# Altium footprint library lan7800.PcbLib: 3 footprints
Each footprint in its own frame and in the unit in brackets; x right, y up, seen from the top. Pads: shape width x height; smd on the part's side, far side on the other; paste and mask are expansions set on the pad; w line width, h text height; cw(c..) or ccw(c..) is an arc to the next point about the centre after c.
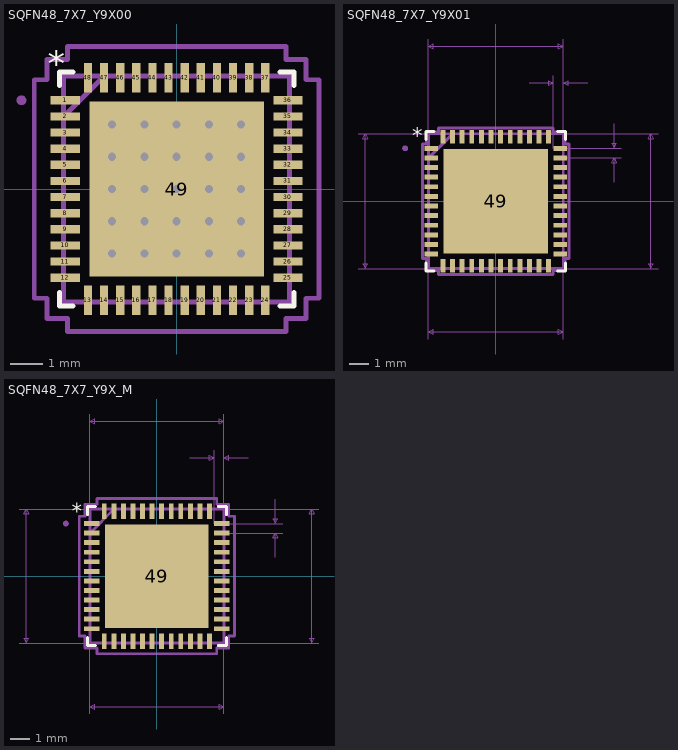
[diagram p0: the footprints below, top view; thin cyan lines are the x and y axes]

## SQFN48_7X7_Y9X00 [mm]
pads (49):
  rect 0.908x0.255 smd: 1(-3.451,2.75) 2(-3.451,2.25) 3(-3.451,1.75) 4(-3.451,1.25) 5(-3.451,0.75) 6(-3.451,0.25) 7(-3.451,-0.25) 8(-3.451,-0.75) 9(-3.451,-1.25) 10(-3.451,-1.75) 11(-3.451,-2.25) 12(-3.451,-2.75) 25(3.451,-2.75) 26(3.451,-2.25) 27(3.451,-1.75) 28(3.451,-1.25) 29(3.451,-0.75) 30(3.451,-0.25) 31(3.451,0.25) 32(3.451,0.75) 33(3.451,1.25) 34(3.451,1.75) 35(3.451,2.25) 36(3.451,2.75)
  rect 0.255x0.908 smd: 13(-2.75,-3.451) 14(-2.25,-3.451) 15(-1.75,-3.451) 16(-1.25,-3.451) 17(-0.75,-3.451) 18(-0.25,-3.451) 19(0.25,-3.451) 20(0.75,-3.451) 21(1.25,-3.451) 22(1.75,-3.451) 23(2.25,-3.451) 24(2.75,-3.451) 37(2.75,3.451) 38(2.25,3.451) 39(1.75,3.451) 40(1.25,3.451) 41(0.75,3.451) 42(0.25,3.451) 43(-0.25,3.451) 44(-0.75,3.451) 45(-1.25,3.451) 46(-1.75,3.451) 47(-2.25,3.451) 48(-2.75,3.451)
  rect 5.41x5.41 smd: 49(0,0)
via -2,-2 diameter 0.33 hole 0.25
via -1,-2 diameter 0.33 hole 0.25
via 0,-2 diameter 0.33 hole 0.25
via 1,-2 diameter 0.33 hole 0.25
via 2,-2 diameter 0.33 hole 0.25
via -2,-1 diameter 0.33 hole 0.25
via -1,-1 diameter 0.33 hole 0.25
via 0,-1 diameter 0.33 hole 0.25
via 1,-1 diameter 0.33 hole 0.25
via 2,-1 diameter 0.33 hole 0.25
via -2,0 diameter 0.33 hole 0.25
via -1,0 diameter 0.33 hole 0.25
via 0,0 diameter 0.33 hole 0.25
via 1,0 diameter 0.33 hole 0.25
via 2,0 diameter 0.33 hole 0.25
via -2,1 diameter 0.33 hole 0.25
via -1,1 diameter 0.33 hole 0.25
via 0,1 diameter 0.33 hole 0.25
via 1,1 diameter 0.33 hole 0.25
via 2,1 diameter 0.33 hole 0.25
via 2,2 diameter 0.33 hole 0.25
via 1,2 diameter 0.33 hole 0.25
via 0,2 diameter 0.33 hole 0.25
via -1,2 diameter 0.33 hole 0.25
via -2,2 diameter 0.33 hole 0.25
Top Overlay:
  lines w0.152: -3.632,-3.21 -3.632,-3.632 -3.21,-3.632 ; -3.632,3.21 -3.632,3.632 -3.21,3.632 ; 3.21,-3.632 3.632,-3.632 3.632,-3.21 ; 3.21,3.632 3.632,3.632 3.632,3.21
  text "*" at -4,3.5 h0.79
Outline:
  lines w0.025: -3.505,2.235 -2.235,3.505 ; -3.505,-3.505 3.505,-3.505 3.505,3.505 -3.505,3.505 -3.505,-3.505 ; -3.505,-2.902 -3.505,-2.598 -3.505,-2.902 ; -3.505,-2.402 -3.505,-2.098 -3.505,-2.402 ; -3.505,-1.902 -3.505,-1.598 -3.505,-1.902 ; -3.505,-1.402 -3.505,-1.098 -3.505,-1.402 ; -3.505,-0.902 -3.505,-0.598 -3.505,-0.902 ; -3.505,-0.402 -3.505,-0.098 -3.505,-0.402 ; -3.505,0.098 -3.505,0.402 -3.505,0.098 ; -3.505,0.598 -3.505,0.902 -3.505,0.598 ; -3.505,1.098 -3.505,1.402 -3.505,1.098 ; -3.505,1.598 -3.505,1.902 -3.505,1.598 ; -3.505,2.098 -3.505,2.402 -3.505,2.098 ; -3.505,2.598 -3.505,2.902 -3.505,2.598 ; -2.902,-3.505 -2.598,-3.505 -2.902,-3.505 ; -2.902,3.505 -2.598,3.505 -2.902,3.505 ; -2.402,-3.505 -2.098,-3.505 -2.402,-3.505 ; -2.402,3.505 -2.098,3.505 -2.402,3.505 ; -1.902,-3.505 -1.598,-3.505 -1.902,-3.505 ; -1.902,3.505 -1.598,3.505 -1.902,3.505 ; -1.402,-3.505 -1.098,-3.505 -1.402,-3.505 ; -1.402,3.505 -1.098,3.505 -1.402,3.505 ; -0.902,-3.505 -0.598,-3.505 -0.902,-3.505 ; -0.902,3.505 -0.598,3.505 -0.902,3.505 ; -0.402,-3.505 -0.098,-3.505 -0.402,-3.505 ; -0.402,3.505 -0.098,3.505 -0.402,3.505 ; 0.098,-3.505 0.402,-3.505 0.098,-3.505 ; 0.098,3.505 0.402,3.505 0.098,3.505 ; 0.598,-3.505 0.902,-3.505 0.598,-3.505 ; 0.598,3.505 0.902,3.505 0.598,3.505 ; 1.098,-3.505 1.402,-3.505 1.098,-3.505 ; 1.098,3.505 1.402,3.505 1.098,3.505 ; 1.598,-3.505 1.902,-3.505 1.598,-3.505 ; 1.598,3.505 1.902,3.505 1.598,3.505 ; 2.098,-3.505 2.402,-3.505 2.098,-3.505 ; 2.098,3.505 2.402,3.505 2.098,3.505 ; 2.598,-3.505 2.902,-3.505 2.598,-3.505 ; 2.598,3.505 2.902,3.505 2.598,3.505 ; 3.505,-2.902 3.505,-2.598 3.505,-2.902 ; 3.505,-2.402 3.505,-2.098 3.505,-2.402 ; 3.505,-1.902 3.505,-1.598 3.505,-1.902 ; 3.505,-1.402 3.505,-1.098 3.505,-1.402 ; 3.505,-0.902 3.505,-0.598 3.505,-0.902 ; 3.505,-0.402 3.505,-0.098 3.505,-0.402 ; 3.505,0.098 3.505,0.402 3.505,0.098 ; 3.505,0.598 3.505,0.902 3.505,0.598 ; 3.505,1.098 3.505,1.402 3.505,1.098 ; 3.505,1.598 3.505,1.902 3.505,1.598 ; 3.505,2.098 3.505,2.402 3.505,2.098 ; 3.505,2.598 3.505,2.902 3.505,2.598
  text "*" at -2.997,3 h0.79
Courtyard Bottom:
  circle w0.152: c-4.81,2.75 r0.076
  lines w0.152: -3.505,2.235 -2.235,3.505 ; -4.413,-3.385 -4.413,3.385 -4.013,3.385 -4.013,4.013 -3.385,4.013 -3.385,4.413 3.385,4.413 3.385,4.013 4.013,4.013 4.013,3.385 4.413,3.385 4.413,-3.385 4.013,-3.385 4.013,-4.013 3.385,-4.013 3.385,-4.413 -3.385,-4.413 -3.385,-4.013 -4.013,-4.013 -4.013,-3.385 -4.413,-3.385 ; -3.505,-3.505 3.505,-3.505 3.505,3.505 -3.505,3.505 -3.505,-3.505
3D body: height 0.99, standoff 0, extent -3.505,-3.505 3.505,3.505

## SQFN48_7X7_Y9X01 [mm]
pads (49):
  rect 0.708x0.255 all layers, no hole: 1(-3.351,2.75) 2(-3.351,2.25) 3(-3.351,1.75) 4(-3.351,1.25) 5(-3.351,0.75) 6(-3.351,0.25) 7(-3.351,-0.25) 8(-3.351,-0.75) 9(-3.351,-1.25) 10(-3.351,-1.75) 11(-3.351,-2.25) 12(-3.351,-2.75) 25(3.351,-2.75) 26(3.351,-2.25) 27(3.351,-1.75) 28(3.351,-1.25) 29(3.351,-0.75) 30(3.351,-0.25) 31(3.351,0.25) 32(3.351,0.75) 33(3.351,1.25) 34(3.351,1.75) 35(3.351,2.25) 36(3.351,2.75)
  rect 0.255x0.708 all layers, no hole: 13(-2.75,-3.351) 14(-2.25,-3.351) 15(-1.75,-3.351) 16(-1.25,-3.351) 17(-0.75,-3.351) 18(-0.25,-3.351) 19(0.25,-3.351) 20(0.75,-3.351) 21(1.25,-3.351) 22(1.75,-3.351) 23(2.25,-3.351) 24(2.75,-3.351) 37(2.75,3.351) 38(2.25,3.351) 39(1.75,3.351) 40(1.25,3.351) 41(0.75,3.351) 42(0.25,3.351) 43(-0.25,3.351) 44(-0.75,3.351) 45(-1.25,3.351) 46(-1.75,3.351) 47(-2.25,3.351) 48(-2.75,3.351)
  rect 5.41x5.41 all layers, no hole: 49(0,0)
Top Overlay:
  lines w0.152: -3.632,-3.21 -3.632,-3.632 -3.21,-3.632 ; -3.632,3.21 -3.632,3.632 -3.21,3.632 ; 3.21,-3.632 3.632,-3.632 3.632,-3.21 ; 3.21,3.632 3.632,3.632 3.632,3.21
  text "*" at -4.34,3 h0.79
Outline:
  lines w0.025: -3.505,2.235 -2.235,3.505 ; -3.505,-3.505 3.505,-3.505 3.505,3.505 -3.505,3.505 -3.505,-3.505 ; -3.505,-2.902 -3.505,-2.598 -3.505,-2.902 ; -3.505,-2.402 -3.505,-2.098 -3.505,-2.402 ; -3.505,-1.902 -3.505,-1.598 -3.505,-1.902 ; -3.505,-1.402 -3.505,-1.098 -3.505,-1.402 ; -3.505,-0.902 -3.505,-0.598 -3.505,-0.902 ; -3.505,-0.402 -3.505,-0.098 -3.505,-0.402 ; -3.505,0.098 -3.505,0.402 -3.505,0.098 ; -3.505,0.598 -3.505,0.902 -3.505,0.598 ; -3.505,1.098 -3.505,1.402 -3.505,1.098 ; -3.505,1.598 -3.505,1.902 -3.505,1.598 ; -3.505,2.098 -3.505,2.402 -3.505,2.098 ; -3.505,2.598 -3.505,2.902 -3.505,2.598 ; -2.902,-3.505 -2.598,-3.505 -2.902,-3.505 ; -2.902,3.505 -2.598,3.505 -2.902,3.505 ; -2.402,-3.505 -2.098,-3.505 -2.402,-3.505 ; -2.402,3.505 -2.098,3.505 -2.402,3.505 ; -1.902,-3.505 -1.598,-3.505 -1.902,-3.505 ; -1.902,3.505 -1.598,3.505 -1.902,3.505 ; -1.402,-3.505 -1.098,-3.505 -1.402,-3.505 ; -1.402,3.505 -1.098,3.505 -1.402,3.505 ; -0.902,-3.505 -0.598,-3.505 -0.902,-3.505 ; -0.902,3.505 -0.598,3.505 -0.902,3.505 ; -0.402,-3.505 -0.098,-3.505 -0.402,-3.505 ; -0.402,3.505 -0.098,3.505 -0.402,3.505 ; 0.098,-3.505 0.402,-3.505 0.098,-3.505 ; 0.098,3.505 0.402,3.505 0.098,3.505 ; 0.598,-3.505 0.902,-3.505 0.598,-3.505 ; 0.598,3.505 0.902,3.505 0.598,3.505 ; 1.098,-3.505 1.402,-3.505 1.098,-3.505 ; 1.098,3.505 1.402,3.505 1.098,3.505 ; 1.598,-3.505 1.902,-3.505 1.598,-3.505 ; 1.598,3.505 1.902,3.505 1.598,3.505 ; 2.098,-3.505 2.402,-3.505 2.098,-3.505 ; 2.098,3.505 2.402,3.505 2.098,3.505 ; 2.598,-3.505 2.902,-3.505 2.598,-3.505 ; 2.598,3.505 2.902,3.505 2.598,3.505 ; 3.505,-2.902 3.505,-2.598 3.505,-2.902 ; 3.505,-2.402 3.505,-2.098 3.505,-2.402 ; 3.505,-1.902 3.505,-1.598 3.505,-1.902 ; 3.505,-1.402 3.505,-1.098 3.505,-1.402 ; 3.505,-0.902 3.505,-0.598 3.505,-0.902 ; 3.505,-0.402 3.505,-0.098 3.505,-0.402 ; 3.505,0.098 3.505,0.402 3.505,0.098 ; 3.505,0.598 3.505,0.902 3.505,0.598 ; 3.505,1.098 3.505,1.402 3.505,1.098 ; 3.505,1.598 3.505,1.902 3.505,1.598 ; 3.505,2.098 3.505,2.402 3.505,2.098 ; 3.505,2.598 3.505,2.902 3.505,2.598
  text "*" at -2.997,3 h0.79
Courtyard Bottom:
  circle w0.152: c-4.71,2.75 r0.076
  lines w0.025: -7.161,-3.505 3.505,-3.505 ; -7.161,3.505 3.505,3.505 3.505,-7.161 ; -3.505,-7.161 -3.505,3.505 ; -3.505,2.75 -3.505,8.431 ; 1.727,6.145 2.997,6.145 ; 2.75,-3.505 8.431,-3.505 ; 2.75,3.505 8.431,3.505 ; 2.997,2.75 2.997,6.526 ; 3.351,2.25 6.526,2.25 ; 3.351,2.75 6.526,2.75 ; 3.505,6.526 3.505,2.75 3.505,8.431 ; 4.775,6.145 3.505,6.145 ; 6.145,0.98 6.145,2.25 ; 6.145,4.02 6.145,2.75 ; -6.78,-3.505 -6.653,-3.251 -6.907,-3.251 -6.78,-3.505 ; -6.78,-3.505 -6.78,3.505 ; -6.78,3.505 -6.653,3.251 -6.907,3.251 -6.78,3.505 ; -3.505,-6.78 -3.251,-6.907 -3.251,-6.653 -3.505,-6.78 ; -3.505,-6.78 3.505,-6.78 ; -3.505,8.05 -3.251,7.923 -3.251,8.177 -3.505,8.05 ; -3.505,8.05 3.505,8.05 ; 2.997,6.145 2.743,6.018 2.743,6.272 2.997,6.145 ; 3.505,-6.78 3.251,-6.907 3.251,-6.653 3.505,-6.78 ; 3.505,6.145 3.759,6.018 3.759,6.272 3.505,6.145 ; 3.505,8.05 3.251,7.923 3.251,8.177 3.505,8.05 ; 6.145,2.25 6.272,1.996 6.018,1.996 6.145,2.25 ; 6.145,2.75 6.272,3.004 6.018,3.004 6.145,2.75 ; 8.05,-3.505 8.177,-3.251 7.923,-3.251 8.05,-3.505 ; 8.05,-3.505 8.05,3.505 ; 8.05,3.505 8.177,3.251 7.923,3.251 8.05,3.505
  lines w0.152: -3.505,2.235 -2.235,3.505 ; -3.807,-2.979 -3.807,2.979 -3.607,2.979 -3.607,3.607 -2.979,3.607 -2.979,3.807 2.979,3.807 2.979,3.607 3.607,3.607 3.607,2.979 3.807,2.979 3.807,-2.979 3.607,-2.979 3.607,-3.607 2.979,-3.607 2.979,-3.807 -2.979,-3.807 -2.979,-3.607 -3.607,-3.607 -3.607,-2.979 -3.807,-2.979 ; -3.505,-3.505 3.505,-3.505 3.505,3.505 -3.505,3.505 -3.505,-3.505
  text "0.276in/7.01mm" at 0,-7.288 h0.4
  text "0.276in/7.01mm" at -7.288,0 h0.4
  text "0.276in/7.01mm" at 8.558,0 h0.4
  text "0.276in/7.01mm" at 0,8.558 h0.4
  text "0.02in/0.508mm" at 3.251,6.653 h0.4
  text "0.02in/0.5mm" at 6.653,2.5 h0.4
  text "Alt 2 Padstyle: b229_152h76" at 0,-16.405 h0.79
  text "Alt 1 Padstyle: b152_229h76" at 0,-14.881 h0.79
  text "Heat Tab Padstyle: r541_541" at 0,-11.833 h0.79
  text "Default Padstyle: r25_71" at 0,-10.309 h0.79

## SQFN48_7X7_Y9X_M [mm]
pads (49):
  rect 0.808x0.255 all layers, no hole: 1(-3.401,2.75) 2(-3.401,2.25) 3(-3.401,1.75) 4(-3.401,1.25) 5(-3.401,0.75) 6(-3.401,0.25) 7(-3.401,-0.25) 8(-3.401,-0.75) 9(-3.401,-1.25) 10(-3.401,-1.75) 11(-3.401,-2.25) 12(-3.401,-2.75) 25(3.401,-2.75) 26(3.401,-2.25) 27(3.401,-1.75) 28(3.401,-1.25) 29(3.401,-0.75) 30(3.401,-0.25) 31(3.401,0.25) 32(3.401,0.75) 33(3.401,1.25) 34(3.401,1.75) 35(3.401,2.25) 36(3.401,2.75)
  rect 0.255x0.808 all layers, no hole: 13(-2.75,-3.401) 14(-2.25,-3.401) 15(-1.75,-3.401) 16(-1.25,-3.401) 17(-0.75,-3.401) 18(-0.25,-3.401) 19(0.25,-3.401) 20(0.75,-3.401) 21(1.25,-3.401) 22(1.75,-3.401) 23(2.25,-3.401) 24(2.75,-3.401) 37(2.75,3.401) 38(2.25,3.401) 39(1.75,3.401) 40(1.25,3.401) 41(0.75,3.401) 42(0.25,3.401) 43(-0.25,3.401) 44(-0.75,3.401) 45(-1.25,3.401) 46(-1.75,3.401) 47(-2.25,3.401) 48(-2.75,3.401)
  rect 5.41x5.41 all layers, no hole: 49(0,0)
Top Overlay:
  lines w0.152: -3.632,-3.21 -3.632,-3.632 -3.21,-3.632 ; -3.632,3.21 -3.632,3.632 -3.21,3.632 ; 3.21,-3.632 3.632,-3.632 3.632,-3.21 ; 3.21,3.632 3.632,3.632 3.632,3.21
  text "*" at -4.44,3 h0.79
Outline:
  lines w0.025: -3.505,2.235 -2.235,3.505 ; -3.505,-3.505 3.505,-3.505 3.505,3.505 -3.505,3.505 -3.505,-3.505 ; -3.505,-2.902 -3.505,-2.598 -3.505,-2.902 ; -3.505,-2.402 -3.505,-2.098 -3.505,-2.402 ; -3.505,-1.902 -3.505,-1.598 -3.505,-1.902 ; -3.505,-1.402 -3.505,-1.098 -3.505,-1.402 ; -3.505,-0.902 -3.505,-0.598 -3.505,-0.902 ; -3.505,-0.402 -3.505,-0.098 -3.505,-0.402 ; -3.505,0.098 -3.505,0.402 -3.505,0.098 ; -3.505,0.598 -3.505,0.902 -3.505,0.598 ; -3.505,1.098 -3.505,1.402 -3.505,1.098 ; -3.505,1.598 -3.505,1.902 -3.505,1.598 ; -3.505,2.098 -3.505,2.402 -3.505,2.098 ; -3.505,2.598 -3.505,2.902 -3.505,2.598 ; -2.902,-3.505 -2.598,-3.505 -2.902,-3.505 ; -2.902,3.505 -2.598,3.505 -2.902,3.505 ; -2.402,-3.505 -2.098,-3.505 -2.402,-3.505 ; -2.402,3.505 -2.098,3.505 -2.402,3.505 ; -1.902,-3.505 -1.598,-3.505 -1.902,-3.505 ; -1.902,3.505 -1.598,3.505 -1.902,3.505 ; -1.402,-3.505 -1.098,-3.505 -1.402,-3.505 ; -1.402,3.505 -1.098,3.505 -1.402,3.505 ; -0.902,-3.505 -0.598,-3.505 -0.902,-3.505 ; -0.902,3.505 -0.598,3.505 -0.902,3.505 ; -0.402,-3.505 -0.098,-3.505 -0.402,-3.505 ; -0.402,3.505 -0.098,3.505 -0.402,3.505 ; 0.098,-3.505 0.402,-3.505 0.098,-3.505 ; 0.098,3.505 0.402,3.505 0.098,3.505 ; 0.598,-3.505 0.902,-3.505 0.598,-3.505 ; 0.598,3.505 0.902,3.505 0.598,3.505 ; 1.098,-3.505 1.402,-3.505 1.098,-3.505 ; 1.098,3.505 1.402,3.505 1.098,3.505 ; 1.598,-3.505 1.902,-3.505 1.598,-3.505 ; 1.598,3.505 1.902,3.505 1.598,3.505 ; 2.098,-3.505 2.402,-3.505 2.098,-3.505 ; 2.098,3.505 2.402,3.505 2.098,3.505 ; 2.598,-3.505 2.902,-3.505 2.598,-3.505 ; 2.598,3.505 2.902,3.505 2.598,3.505 ; 3.505,-2.902 3.505,-2.598 3.505,-2.902 ; 3.505,-2.402 3.505,-2.098 3.505,-2.402 ; 3.505,-1.902 3.505,-1.598 3.505,-1.902 ; 3.505,-1.402 3.505,-1.098 3.505,-1.402 ; 3.505,-0.902 3.505,-0.598 3.505,-0.902 ; 3.505,-0.402 3.505,-0.098 3.505,-0.402 ; 3.505,0.098 3.505,0.402 3.505,0.098 ; 3.505,0.598 3.505,0.902 3.505,0.598 ; 3.505,1.098 3.505,1.402 3.505,1.098 ; 3.505,1.598 3.505,1.902 3.505,1.598 ; 3.505,2.098 3.505,2.402 3.505,2.098 ; 3.505,2.598 3.505,2.902 3.505,2.598
  text "*" at -2.997,3 h0.79
Courtyard Bottom:
  circle w0.152: c-4.76,2.75 r0.076
  lines w0.025: -7.211,-3.505 3.505,-3.505 ; -7.211,3.505 3.505,3.505 3.505,-7.211 ; -3.505,-7.211 -3.505,3.505 ; -3.505,2.75 -3.505,8.481 ; 1.727,6.195 2.997,6.195 ; 2.75,-3.505 8.481,-3.505 ; 2.75,3.505 8.481,3.505 ; 2.997,2.75 2.997,6.576 ; 3.401,2.25 6.576,2.25 ; 3.401,2.75 6.576,2.75 ; 3.505,6.576 3.505,2.75 3.505,8.481 ; 4.775,6.195 3.505,6.195 ; 6.195,0.98 6.195,2.25 ; 6.195,4.02 6.195,2.75 ; -6.83,-3.505 -6.703,-3.251 -6.957,-3.251 -6.83,-3.505 ; -6.83,-3.505 -6.83,3.505 ; -6.83,3.505 -6.703,3.251 -6.957,3.251 -6.83,3.505 ; -3.505,-6.83 -3.251,-6.957 -3.251,-6.703 -3.505,-6.83 ; -3.505,-6.83 3.505,-6.83 ; -3.505,8.1 -3.251,7.973 -3.251,8.227 -3.505,8.1 ; -3.505,8.1 3.505,8.1 ; 2.997,6.195 2.743,6.068 2.743,6.322 2.997,6.195 ; 3.505,-6.83 3.251,-6.957 3.251,-6.703 3.505,-6.83 ; 3.505,6.195 3.759,6.068 3.759,6.322 3.505,6.195 ; 3.505,8.1 3.251,7.973 3.251,8.227 3.505,8.1 ; 6.195,2.25 6.322,1.996 6.068,1.996 6.195,2.25 ; 6.195,2.75 6.322,3.004 6.068,3.004 6.195,2.75 ; 8.1,-3.505 8.227,-3.251 7.973,-3.251 8.1,-3.505 ; 8.1,-3.505 8.1,3.505 ; 8.1,3.505 8.227,3.251 7.973,3.251 8.1,3.505
  lines w0.152: -3.505,2.235 -2.235,3.505 ; -4.059,-3.131 -4.059,3.131 -3.759,3.131 -3.759,3.759 -3.131,3.759 -3.131,4.059 3.131,4.059 3.131,3.759 3.759,3.759 3.759,3.131 4.059,3.131 4.059,-3.131 3.759,-3.131 3.759,-3.759 3.131,-3.759 3.131,-4.059 -3.131,-4.059 -3.131,-3.759 -3.759,-3.759 -3.759,-3.131 -4.059,-3.131 ; -3.505,-3.505 3.505,-3.505 3.505,3.505 -3.505,3.505 -3.505,-3.505
  text "0.276in/7.01mm" at 0,-7.338 h0.4
  text "0.276in/7.01mm" at -7.338,0 h0.4
  text "0.276in/7.01mm" at 8.608,0 h0.4
  text "0.276in/7.01mm" at 0,8.608 h0.4
  text "0.02in/0.508mm" at 3.251,6.703 h0.4
  text "0.02in/0.5mm" at 6.703,2.5 h0.4
  text "Alt 2 Padstyle: b229_152h76" at 0,-16.505 h0.79
  text "Alt 1 Padstyle: b152_229h76" at 0,-14.981 h0.79
  text "Heat Tab Padstyle: r541_541" at 0,-11.933 h0.79
  text "Default Padstyle: r25_81" at 0,-10.409 h0.79